# EAGLE library part WM8960 (library thanics_robotics)
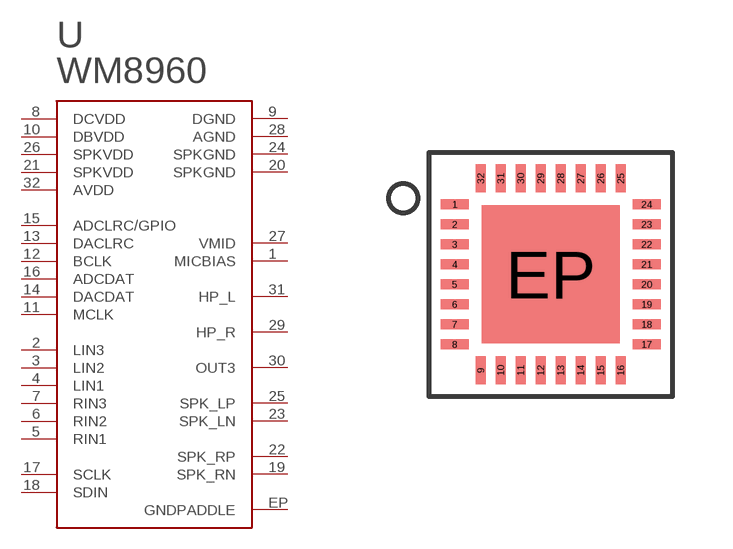
[diagram p35: symbol with the pads of 32QFN; footprint 32QFN]

Designator prefix -

## WM8960  [32QFN]
1  MICBIAS
2  LIN3
3  LIN2
4  LIN1
5  RIN1
6  RIN2
7  RIN3
8  DCVDD
9  DGND
10  DBVDD
11  MCLK
12  BCLK
13  DACLRC
14  DACDAT
15  ADCLRC/GPIO
16  ADCDAT
17  SCLK
18  SDIN
19  SPK_RN
20  SPKGND
21  SPKVDD
22  SPK_RP
23  SPK_LN
24  SPKGND
25  SPK_LP
26  SPKVDD
27  VMID
28  AGND
29  HP_R
30  OUT3
31  HP_L
32  AVDD
EP  GNDPADDLE

## Footprint 32QFN (pad centres in mm)
smd 0.7 x 0.25: 1 -2.4,1.75; 2 -2.4,1.25; 3 -2.4,0.75; 4 -2.4,0.25; 5 -2.4,-0.25; 6 -2.4,-0.75; 7 -2.4,-1.25; 8 -2.4,-1.75; 17 2.4,-1.75; 18 2.4,-1.25; 19 2.4,-0.75; 20 2.4,-0.25; 21 2.4,0.25; 22 2.4,0.75; 23 2.4,1.25; 24 2.4,1.75
smd 0.25 x 0.7: 9 -1.75,-2.4; 10 -1.25,-2.4; 11 -0.75,-2.4; 12 -0.25,-2.4; 13 0.25,-2.4; 14 0.75,-2.4; 15 1.25,-2.4; 16 1.75,-2.4; 25 1.75,2.4; 26 1.25,2.4; 27 0.75,2.4; 28 0.25,2.4; 29 -0.25,2.4; 30 -0.75,2.4; 31 -1.25,2.4; 32 -1.75,2.4
smd 3.45 x 3.45: EP 0,0